# EAGLE library part AVR1-ATTINY15 (library Atmel_AVR8)
MICROCONTROLLER 2.7 V 1 Kbytes FLASH 64 bytes EEPROM 4-channel 10 bit ADC
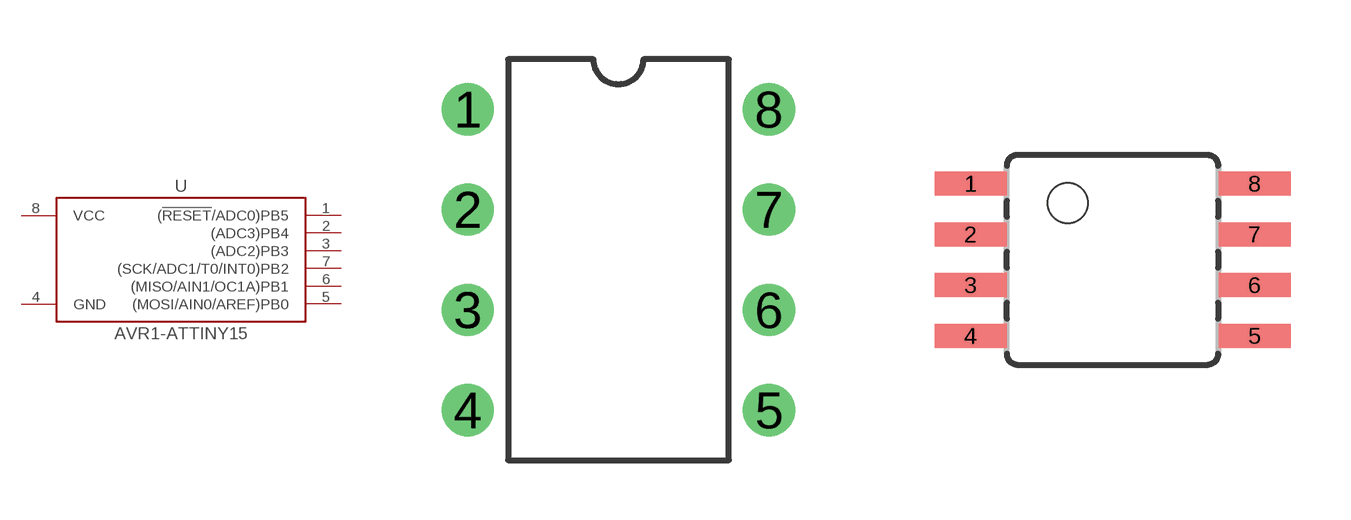
[diagram p15: symbol with the pads of 8P3; footprints 8P3, 8S2]

Designator prefix U

## AVR1-ATTINY15L-1P  [8P3]
1  (!RESET!/ADC0)PB5
2  (ADC3)PB4
3  (ADC2)PB3
4  GND  pas
5  (MOSI/AIN0/AREF)PB0
6  (MISO/AIN1/OC1A)PB1
7  (SCK/ADC1/T0/INT0)PB2
8  VCC  pwr

## AVR1-ATTINY15L-1S  [8S2]
Pads as for 8P3

## Footprint 8P3 (pad centres in mm)
8-lead, 0.300" Wide Body, Plastic Dual In-line Package (PDIP)
drill 0.813: 1 -3.81,3.81; 2 -3.81,1.27; 3 -3.81,-1.27; 4 -3.81,-3.81; 5 3.81,-3.81; 6 3.81,-1.27; 7 3.81,1.27; 8 3.81,3.81

## Footprint 8S2 (pad centres in mm)
8-lead, 0.208” Body, Plastic Small Outline Package (EIAJ) Atmel PCB Mounting Guidelines for Surface Mount Packages, Page 6 <http://www.atmel.com/images/atmel-8826-seeprom-pcb-mounting-guidelines-surface-mount-packages-applicationnote.pdf#page=6>
smd 1.8 x 0.6: 1 -3.55,1.905; 2 -3.55,0.635; 3 -3.55,-0.635; 4 -3.55,-1.905; 5 3.55,-1.905; 6 3.55,-0.635; 7 3.55,0.635; 8 3.55,1.905